# EAGLE library part 3M_2908-05WB (library XMC4500_Relax-V1)
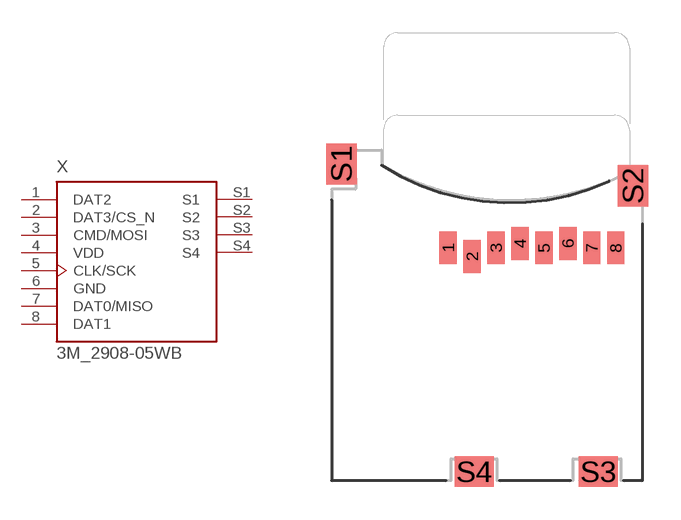
[diagram p0: symbol with the pads of 3M_MICRO-SD_SLOT; footprint 3M_MICRO-SD_SLOT]

Designator prefix X

## 3M_2908-05WB  [3M_MICRO-SD_SLOT]
1  DAT2  nc
2  DAT3/CS_N  in
3  CMD/MOSI  in
4  VDD  pwr
5  CLK/SCK  in
6  GND  pwr
7  DAT0/MISO  out
8  DAT1  nc
S1  S1  nc
S2  S2  nc
S3  S3  nc
S4  S4  nc

## Footprint 3M_MICRO-SD_SLOT (pad centres in mm)
smd 0.8 x 1.5: 1 -1.94,2.7; 2 -0.84,2.3; 3 0.26,2.7; 4 1.36,2.9; 5 2.46,2.7; 6 3.56,2.9; 7 4.66,2.7; 8 5.76,2.7
smd 1.4 x 1.9: S1 -6.85,6.55; S2 6.55,5.55
smd 1.8 x 1.4: S3 4.95,-7.6; S4 -0.75,-7.6